# Altium footprint library memo.PcbLib: 57 footprints (part 4 of 4)
Each footprint in its own frame and in the unit in brackets; x right, y up, seen from the top. Pads: shape width x height; smd on the part's side, far side on the other; paste and mask are expansions set on the pad; w line width, h text height; cw(c..) or ccw(c..) is an arc to the next point about the centre after c.
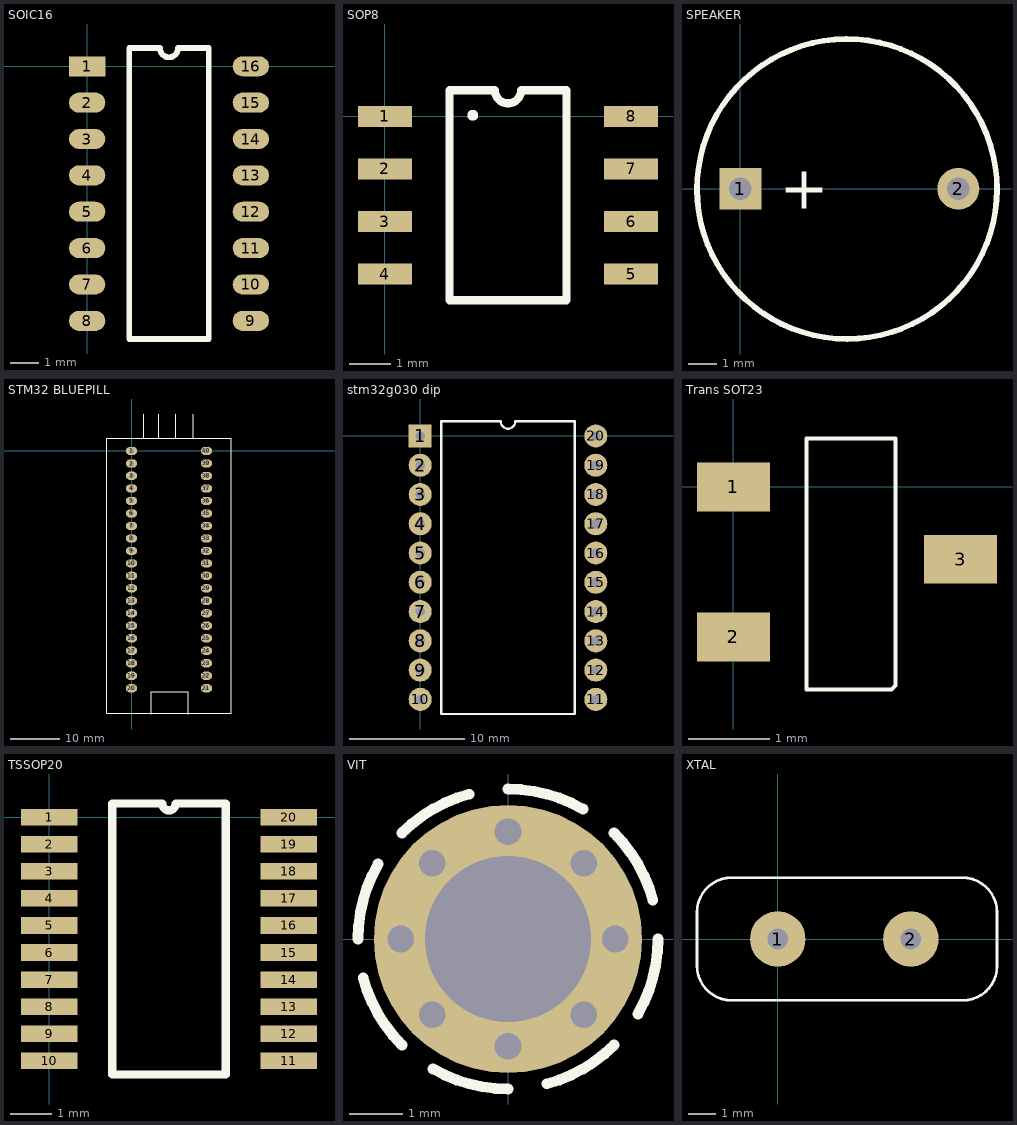
[diagram p3: the footprints below, top view; thin cyan lines are the x and y axes]

## SOIC16 [mm]
pads (16):
  rect 1.27x0.7 smd: 1(0,0)
  oval 1.27x0.7 smd: 2(0,-1.27) 3(0,-2.54) 4(0,-3.81) 5(0,-5.08) 6(0,-6.35) 7(0,-7.62) 8(0,-8.89) 9(5.72,-8.89) 10(5.72,-7.62) 11(5.72,-6.35) 12(5.72,-5.08) 13(5.72,-3.81) 14(5.72,-2.54) 15(5.72,-1.27) 16(5.72,0)
Top Overlay:
  lines w0.2: 1.47,-9.525 1.47,0.635 2.542,0.635 ccw(c2.86,0.635) 3.177,0.635 4.25,0.635 4.25,-9.525 1.47,-9.525

## SOP8 [mm]
pads (8):
  rect 1.3x0.5 smd: 1(0,0) 2(0,-1.27) 3(0,-2.54) 4(0,-3.81) 5(5.95,-3.81) 6(5.95,-2.54) 7(5.95,-1.27) 8(5.95,0)
Top Overlay:
  lines w0.2: 2.1,0 2.15,0 2.1,0.05 2.15,0.05 ; 1.56,-4.445 1.56,0.635 2.658,0.635 ccw(c2.975,0.635) 3.293,0.635 4.39,0.635 4.39,-4.445 1.56,-4.445

## SPEAKER [mm]
pads (2):
  rect 1.5x1.5 hole 0.8: 1(0,0)
  round 1.5 hole 0.8: 2(7.8,0)
Top Overlay:
  lines w0.203: 7.724,3.67 ccw(c3.816,-0.008) 7.76,3.632
  text "+" at 1.41,-0.711 h1.52
3D body "User Library-Buzzer WST-1203UX.step": height 4.5, standoff -9.65, extent -5.777,-5.6 9.677,6.4

## STM32 BLUEPILL [mil]
pads (40):
  oval 90x65 hole 36: 1(0,0) 2(0,-101) 3(0,-199) 4(0,-300) 5(0,-400) 6(0,-500) 7(0,-600) 8(0,-700) 9(0,-800) 10(0,-900) 11(0,-1000) 12(0,-1100) 13(0,-1200) 14(0,-1300) 15(0,-1400) 16(0,-1500) 17(0,-1600) 18(0,-1700) 19(0,-1800) 20(0,-1900) 21(600,-1900) 22(600,-1800) 23(600,-1700) 24(600,-1600) 25(600,-1500) 26(600,-1400) 27(600,-1300) 28(600,-1200) 29(600,-1100) 30(600,-1000) 31(600,-900) 32(600,-800) 33(600,-700) 34(600,-600) 35(600,-500) 36(600,-400) 37(600,-300) 38(600,-200) 39(600,-100) 40(600,0)
Top Overlay:
  lines w7.87: 98.43,98.43 98.43,295.28 ; 157.48,-2106.3 157.48,-1929.13 452.76,-1929.13 452.76,-2106.3 ; 216.54,98.43 216.54,295.28 ; 354.33,98.43 354.33,295.28 ; 492.13,98.43 492.13,295.28 ; -200,-2100 800,-2100 800,100 -200,100 -200,-2100
3D body "STM32F103C8T6_Blue_Pill v6.step": height 384.65, standoff -334.65, extent -157.48,-2038.58 742.52,227.56

## stm32g030 dip [mm]
pads (20):
  rect 2x2 hole 0.8: 1(0,0)
  round 2 hole 0.8: 2(0,-2.54) 3(0,-5.08) 4(0,-7.62) 5(0,-10.16) 6(0,-12.7) 7(0,-15.24) 8(0,-17.78) 9(0,-20.32) 10(0,-22.86) 11(15.24,-22.86) 12(15.24,-20.32) 13(15.24,-17.78) 14(15.24,-15.24) 15(15.24,-12.7) 16(15.24,-10.16) 17(15.24,-7.62) 18(15.24,-5.08) 19(15.24,-2.54) 20(15.24,0)
Top Overlay:
  lines w0.2: 1.835,-24.13 13.405,-24.13 13.405,1.27 8.255,1.27 cw(c7.62,1.27) 6.985,1.27 1.835,1.27 1.835,-24.13

## Trans SOT23 [mm]
pads (3):
  rect 0.9x0.6 smd: 1(0,0) 2(0,-1.85) 3(2.8,-0.89)
Top Overlay:
  lines w0.051: 0.9,-2.5 0.9,0.6 2,0.6 2,-2.45 1.95,-2.5 0.9,-2.5

## TSSOP20 [mm]
pads (20):
  rect 1.35x0.4 smd: 1(0,0) 2(0,-0.65) 3(0,-1.3) 4(0,-1.95) 5(0,-2.6) 6(0,-3.25) 7(0,-3.9) 8(0,-4.55) 9(0,-5.2) 10(0,-5.85) 11(5.75,-5.85) 12(5.75,-5.2) 13(5.75,-4.55) 14(5.75,-3.9) 15(5.75,-3.25) 16(5.75,-2.6) 17(5.75,-1.95) 18(5.75,-1.3) 19(5.75,-0.65) 20(5.75,0)
Top Overlay:
  lines w0.2: 1.51,-6.175 1.51,0.325 2.713,0.325 ccw(c2.875,0.325) 3.037,0.325 4.24,0.325 4.24,-6.175 1.51,-6.175

## VIT [mm]
pads (9):
  round 0.5 hole 0.5: ""(-2,0) ""(-1.414,-1.414) ""(-1.414,1.414) ""(0,-2) ""(0,2) ""(1.414,-1.414) ""(1.414,1.414) ""(2,0)
  round 5 hole 3.1: ""(0,0)
Top Overlay:
  lines w0.2: -2.8,0 cw(c0,0) -2.425,1.4 ; -2.705,-0.725 ccw(c0,0) -1.98,-1.98 ; -1.98,1.98 cw(c0,0) -0.725,2.705 ; -1.4,-2.425 ccw(c0,0) 0,-2.8 ; 0,2.8 cw(c0,0) 1.4,2.425 ; 0.725,-2.705 ccw(c0,0) 1.98,-1.98 ; 1.98,1.98 cw(c0,0) 2.705,0.725 ; 2.425,-1.4 ccw(c0,0) 2.8,0

## XTAL [mil]
pads (2):
  round 80 hole 30: 1(0,0) 2(192.13,0)
Top Overlay:
  lines w3.94: -116.54,-38.58 ccw(c-66.54,-38.58) -66.54,-88.58 267.32,-88.58 ccw(c267.32,-39.37) 316.54,-39.37 316.54,38.58 ccw(c266.54,38.58) 266.54,88.58 -47.64,88.58 -66.54,88.58 ccw(c-66.54,38.58) -116.54,38.58 -116.54,-29.53 -116.54,-38.58
3D body "User Library-HC49U-2.step": height 519.68, standoff -78.74, extent -116.54,-88.58 316.54,88.58